# EAGLE library part USBC (library pandasat)
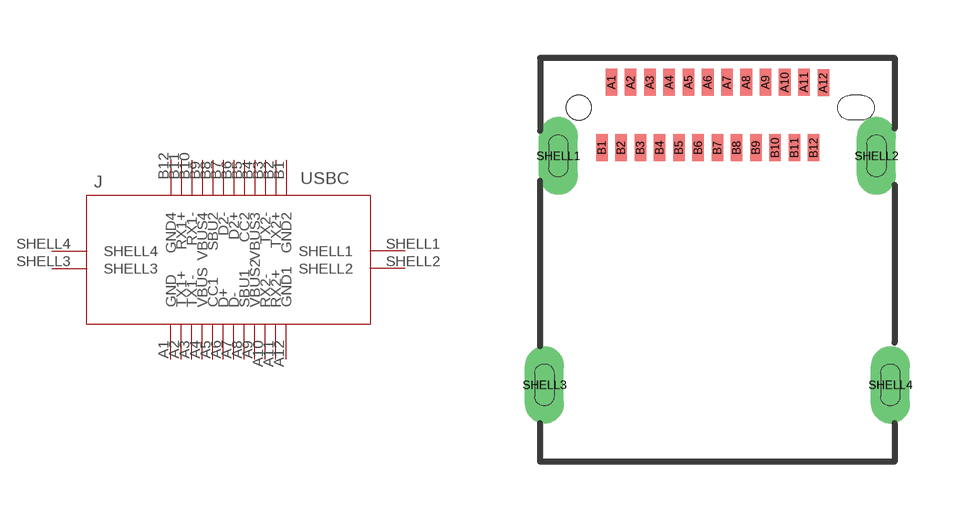
[diagram p6: symbol with the pads of USB-CSMD; footprint USB-CSMD]

Designator prefix J

## USBC  [USB-CSMD]
A1  GND
A2  TX1+
A3  TX1-
A4  VBUS
A5  CC1
A6  D+
A7  D-
A8  SBU1
A9  VBUS2
A10  RX2-
A11  RX2+
A12  GND1
B1  GND2
B2  TX2+
B3  TX2-
B4  VBUS3
B5  CC2
B6  D2+
B7  D2-
B8  SBU2
B9  VBUS4
B10  RX1-
B11  RX1+
B12  GND4
SHELL1  SHELL1
SHELL2  SHELL2
SHELL3  SHELL3
SHELL4  SHELL4

## Footprint USB-CSMD (pad centres in mm)
smd 0.3 x 0.7: A1 -2.75,0.66; A2 -2.25,0.66; A3 -1.75,0.66; A4 -1.25,0.66; A5 -0.75,0.66; A6 -0.25,0.66; A7 0.25,0.66; A8 0.75,0.66; A9 1.25,0.66; A10 1.75,0.66; A11 2.25,0.66; A12 2.75,0.65; B1 -3,-1.04; B2 -2.5,-1.04; B3 -2,-1.04; B4 -1.5,-1.04; B5 -1,-1.04; B6 -0.5,-1.04; B7 0,-1.04; B8 0.5,-1.04; B9 1,-1.04; B10 1.5,-1.04; B11 2,-1.04; B12 2.5,-1.04
drill 0.5 pad 0.8 long: SHELL1 -4.13,-1.25; SHELL2 4.13,-1.25; SHELL3 -4.49,-7.2; SHELL4 4.49,-7.2